# EAGLE library part X15-2S (library connectors)
Connector 15 pins, with 2 shield pins
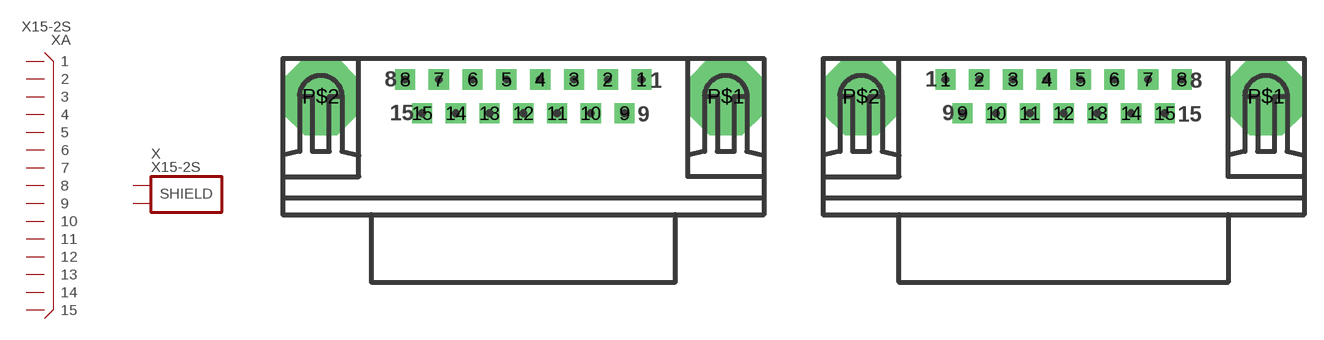
[diagram p71: symbol with the pads of X15-DSUBFEMALE1; footprints X15-DSUBFEMALE1, X15-DSUBMALE1]

Designator prefix X; gates A=X15 S=SHIELD2

## X15-2S-DFEM  [X15-DSUBFEMALE1]
1  A:1
2  A:2
3  A:3
4  A:4
5  A:5
6  A:6
7  A:7
8  A:8
9  A:9
10  A:10
11  A:11
12  A:12
13  A:13
14  A:14
15  A:15
P$1  S:S1
P$2  S:S2

## X15-2S-DMAL  [X15-DSUBMALE1]
Pads as for X15-DSUBFEMALE1

## Footprint X15-DSUBFEMALE1 (pad centres in mm)
D-SUB connector 15 pins, female American size, with shield soldering pads
drill 0.889 pad 1.651 square: 1 9.625,1.375; 2 6.875,1.375; 3 4.125,1.375; 4 1.375,1.375; 5 -1.375,1.375; 6 -4.125,1.375; 7 -6.875,1.375; 8 -9.625,1.375; 9 8.25,-1.375; 10 5.5,-1.375; 11 2.75,-1.375; 12 0,-1.375; 13 -2.75,-1.375; 14 -5.5,-1.375; 15 -8.25,-1.375
drill 3.175 pad 6.35 octagon: P$1 16.5,0; P$2 -16.5,0

## Footprint X15-DSUBMALE1 (pad centres in mm)
D-SUB connector 15 pins, male American size, with shield soldering pads
drill 0.889 pad 1.651 square: 1 -9.625,1.375; 2 -6.875,1.375; 3 -4.125,1.375; 4 -1.375,1.375; 5 1.375,1.375; 6 4.125,1.375; 7 6.875,1.375; 8 9.625,1.375; 9 -8.25,-1.375; 10 -5.5,-1.375; 11 -2.75,-1.375; 12 0,-1.375; 13 2.75,-1.375; 14 5.5,-1.375; 15 8.25,-1.375
drill 3.175 pad 6.35 octagon: P$1 16.5,0; P$2 -16.5,0